# EAGLE library part IC-OPAMP-QUAD-* (library elpp-v1.1)
Operational amplifier, quad.
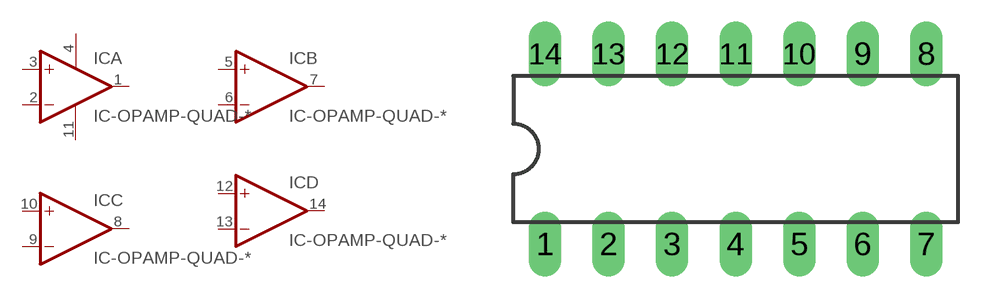
[diagram p5: symbol with the pads of EPP-DIP-14; footprint EPP-DIP-14]

Designator prefix IC; gates A=OPAMP B=OPAMP C=OPAMP D=OPAMP P=PWR+-

## IC-OPAMP-QUAD-LM324 (FARNELL: 1564884; RS: 6610530), IC-OPAMP-QUAD-MCP6004 (FARNELL: 1605571; RS: 403181), IC-OPAMP-QUAD-TL074 (FARNELL: 1256325; RS: 302621)  [EPP-DIP-14]
1  A:OUT  out
2  A:-IN  in
3  A:+IN  in
4  P:V+  pas
5  B:+IN  in
6  B:-IN  in
7  B:OUT  out
8  C:OUT  out
9  C:-IN  in
10  C:+IN  in
11  P:V-  pas
12  D:+IN  in
13  D:-IN  in
14  D:OUT  out

## Footprint EPP-DIP-14 (pad centres in mm)
Dual In Line (DIL), 14-way
drill 0.8 long: 1 -7.62,-3.81; 2 -5.08,-3.81; 3 -2.54,-3.81; 4 0,-3.81; 5 2.54,-3.81; 6 5.08,-3.81; 7 7.62,-3.81; 8 7.62,3.81; 9 5.08,3.81; 10 2.54,3.81; 11 0,3.81; 12 -2.54,3.81; 13 -5.08,3.81; 14 -7.62,3.81